# EAGLE library part PMEA-PIEFOUNDRY-64CHAN+REF (library pmea-piefoundry)
64 channel polymer microelectrode array (pMEA) connector with integrated reference; Connection requires 66 wirebond (soft-gold) pads for ultrasonic bump bonding 3/25/25 Kee Scholten PIE Foundry @ USC
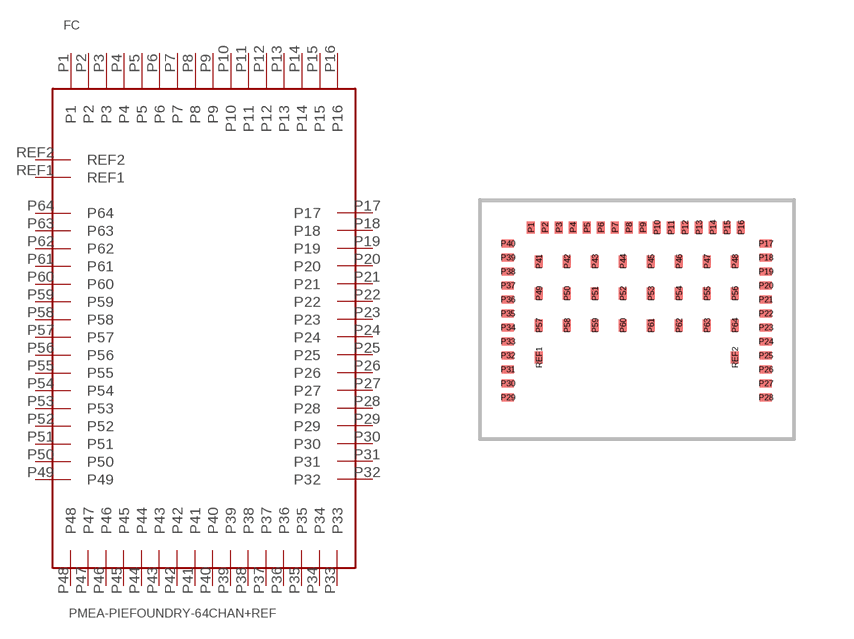
[diagram p3: symbol with the pads of PMEA-PIEFOUNDRY-64CHAN+REF; footprint PMEA-PIEFOUNDRY-64CHAN+REF]

Designator prefix FC

## PMEA-PIEFOUNDRY-64CHAN+REF  [PMEA-PIEFOUNDRY-64CHAN+REF]
P1  P1
P2  P2
P3  P3
P4  P4
P5  P5
P6  P6
P7  P7
P8  P8
P9  P9
P10  P10
P11  P11
P12  P12
P13  P13
P14  P14
P15  P15
P16  P16
P17  P17
P18  P18
P19  P19
P20  P20
P21  P21
P22  P22
P23  P23
P24  P24
P25  P25
P26  P26
P27  P27
P28  P28
P29  P29
P30  P30
P31  P31
P32  P32
P33  P33
P34  P34
P35  P35
P36  P36
P37  P37
P38  P38
P39  P39
P40  P40
P41  P41
P42  P42
P43  P43
P44  P44
P45  P45
P46  P46
P47  P47
P48  P48
P49  P49
P50  P50
P51  P51
P52  P52
P53  P53
P54  P54
P55  P55
P56  P56
P57  P57
P58  P58
P59  P59
P60  P60
P61  P61
P62  P62
P63  P63
P64  P64
REF1  REF1
REF2  REF2

## Footprint PMEA-PIEFOUNDRY-64CHAN+REF (pad centres in mm)
Parylene C Bond Pad for Standard PIE Foundry 64 Pad MEA Connector with Integrated Reference
smd 0.2 x 0.3: P1 -2.65,2.675; P2 -2.3,2.675; P3 -1.95,2.675; P4 -1.6,2.675; P5 -1.25,2.675; P6 -0.9,2.675; P7 -0.55,2.675; P8 -0.2,2.675; P9 0.15,2.675; P10 0.5,2.675; P11 0.85,2.675; P12 1.2,2.675; P13 1.55,2.675; P14 1.9,2.675; P15 2.25,2.675; P16 2.6,2.675; P41 -2.45,1.825; P42 -1.75,1.825; P43 -1.05,1.825; P44 -0.35,1.825; P45 0.35,1.825; P46 1.05,1.825; P47 1.75,1.825; P48 2.45,1.825; P49 -2.45,1.025; P50 -1.75,1.025; P51 -1.05,1.025; P52 -0.35,1.025; P53 0.35,1.025; P54 1.05,1.025; P55 1.75,1.025; P56 2.45,1.025; P57 -2.45,0.225; P58 -1.75,0.225; P59 -1.05,0.225; P60 -0.35,0.225; P61 0.35,0.225; P62 1.05,0.225; P63 1.75,0.225; P64 2.45,0.225; REF1 -2.45,-0.575; REF2 2.45,-0.575
smd 0.3 x 0.2: P17 3.225,2.275; P18 3.225,1.925; P19 3.225,1.575; P20 3.225,1.225; P21 3.225,0.875; P22 3.225,0.525; P23 3.225,0.175; P24 3.225,-0.175; P25 3.225,-0.525; P26 3.225,-0.875; P27 3.225,-1.225; P28 3.225,-1.575; P29 -3.225,-1.575; P30 -3.225,-1.225; P31 -3.225,-0.875; P32 -3.225,-0.525; P33 -3.225,-0.175; P34 -3.225,0.175; P35 -3.225,0.525; P36 -3.225,0.875; P37 -3.225,1.225; P38 -3.225,1.575; P39 -3.225,1.925; P40 -3.225,2.275